# Altium schematic symbol library ORCAD.SchLib: 1 symbol
Pins are listed as number, name and electrical type; pins without a type are passive.

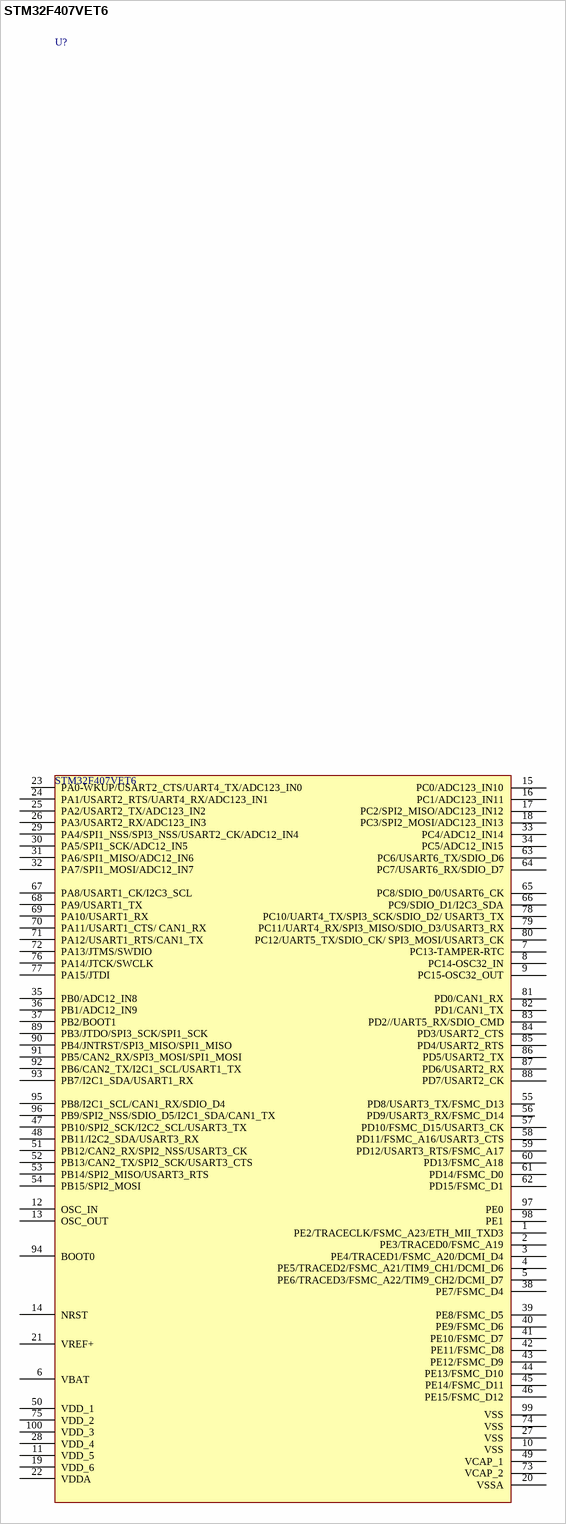
[diagram p0: symbol STM32F407VET6]

## STM32F407VET6
designator U?
footprint STM-LQFP100_M (Thin QFP, 100-Leads, Body 14x14mm, Pitch 0.5mm, IPC Low Density)
pins: 1 PE2/TRACECLK/FSMC_A23/ETH_MII_TXD3, 2 PE3/TRACED0/FSMC_A19, 3 PE4/TRACED1/FSMC_A20/DCMI_D4, 4 PE5/TRACED2/FSMC_A21/TIM9_CH1/DCMI_D6, 5 PE6/TRACED3/FSMC_A22/TIM9_CH2/DCMI_D7, 6 VBAT, 7 PC13-TAMPER-RTC, 8 PC14-OSC32_IN, 9 PC15-OSC32_OUT, 10 VSS, 11 VDD_5, 12 OSC_IN, 13 OSC_OUT, 14 NRST, 15 PC0/ADC123_IN10, 16 PC1/ADC123_IN11, 17 PC2/SPI2_MISO/ADC123_IN12, 18 PC3/SPI2_MOSI/ADC123_IN13, 19 VDD_6, 20 VSSA (power), 21 VREF+, 22 VDDA, 23 PA0-WKUP/USART2_CTS/UART4_TX/ADC123_IN0, 24 PA1/USART2_RTS/UART4_RX/ADC123_IN1, 25 PA2/USART2_TX/ADC123_IN2, 26 PA3/USART2_RX/ADC123_IN3, 27 VSS, 28 VDD_4, 29 PA4/SPI1_NSS/SPI3_NSS/USART2_CK/ADC12_IN4, 30 PA5/SPI1_SCK/ADC12_IN5, 31 PA6/SPI1_MISO/ADC12_IN6, 32 PA7/SPI1_MOSI/ADC12_IN7, 33 PC4/ADC12_IN14, 34 PC5/ADC12_IN15, 35 PB0/ADC12_IN8, 36 PB1/ADC12_IN9, 37 PB2/BOOT1, 38 PE7/FSMC_D4, 39 PE8/FSMC_D5, 40 PE9/FSMC_D6, 41 PE10/FSMC_D7, 42 PE11/FSMC_D8, 43 PE12/FSMC_D9, 44 PE13/FSMC_D10, 45 PE14/FSMC_D11, 46 PE15/FSMC_D12, 47 PB10/SPI2_SCK/I2C2_SCL/USART3_TX, 48 PB11/I2C2_SDA/USART3_RX, 49 VCAP_1 (power), 50 VDD_1, 51 PB12/CAN2_RX/SPI2_NSS/USART3_CK, 52 PB13/CAN2_TX/SPI2_SCK/USART3_CTS, 53 PB14/SPI2_MISO/USART3_RTS, 54 PB15/SPI2_MOSI, 55 PD8/USART3_TX/FSMC_D13, 56 PD9/USART3_RX/FSMC_D14, 57 PD10/FSMC_D15/USART3_CK, 58 PD11/FSMC_A16/USART3_CTS, 59 PD12/USART3_RTS/FSMC_A17, 60 PD13/FSMC_A18, 61 PD14/FSMC_D0, 62 PD15/FSMC_D1, 63 PC6/USART6_TX/SDIO_D6, 64 PC7/USART6_RX/SDIO_D7, 65 PC8/SDIO_D0/USART6_CK, 66 PC9/SDIO_D1/I2C3_SDA, 67 PA8/USART1_CK/I2C3_SCL, 68 PA9/USART1_TX, 69 PA10/USART1_RX, 70 PA11/USART1_CTS/ CAN1_RX, 71 PA12/USART1_RTS/CAN1_TX, 72 PA13/JTMS/SWDIO, 73 VCAP_2, 74 VSS, 75 VDD_2, 76 PA14/JTCK/SWCLK, 77 PA15/JTDI, 78 PC10/UART4_TX/SPI3_SCK/SDIO_D2/ USART3_TX, 79 PC11/UART4_RX/SPI3_MISO/SDIO_D3/USART3_RX, 80 PC12/UART5_TX/SDIO_CK/ SPI3_MOSI/USART3_CK, 81 PD0/CAN1_RX, 82 PD1/CAN1_TX, 83 PD2//UART5_RX/SDIO_CMD, 84 PD3/USART2_CTS, 85 PD4/USART2_RTS, 86 PD5/USART2_TX, 87 PD6/USART2_RX, 88 PD7/USART2_CK, 89 PB3/JTDO/SPI3_SCK/SPI1_SCK, 90 PB4/JNTRST/SPI3_MISO/SPI1_MISO, 91 PB5/CAN2_RX/SPI3_MOSI/SPI1_MOSI, 92 PB6/CAN2_TX/I2C1_SCL/USART1_TX, 93 PB7/I2C1_SDA/USART1_RX, 94 BOOT0, 95 PB8/I2C1_SCL/CAN1_RX/SDIO_D4, 96 PB9/SPI2_NSS/SDIO_D5/I2C1_SDA/CAN1_TX, 97 PE0, 98 PE1, 99 VSS, 100 VDD_3